# Altium footprint library MountingHole.PcbLib: 167 footprints (part 4 of 11)
Each footprint in its own frame and in the unit in brackets; x right, y up, seen from the top. Pads: shape width x height; smd on the part's side, far side on the other; paste and mask are expansions set on the pad; w line width, h text height; cw(c..) or ccw(c..) is an arc to the next point about the centre after c.
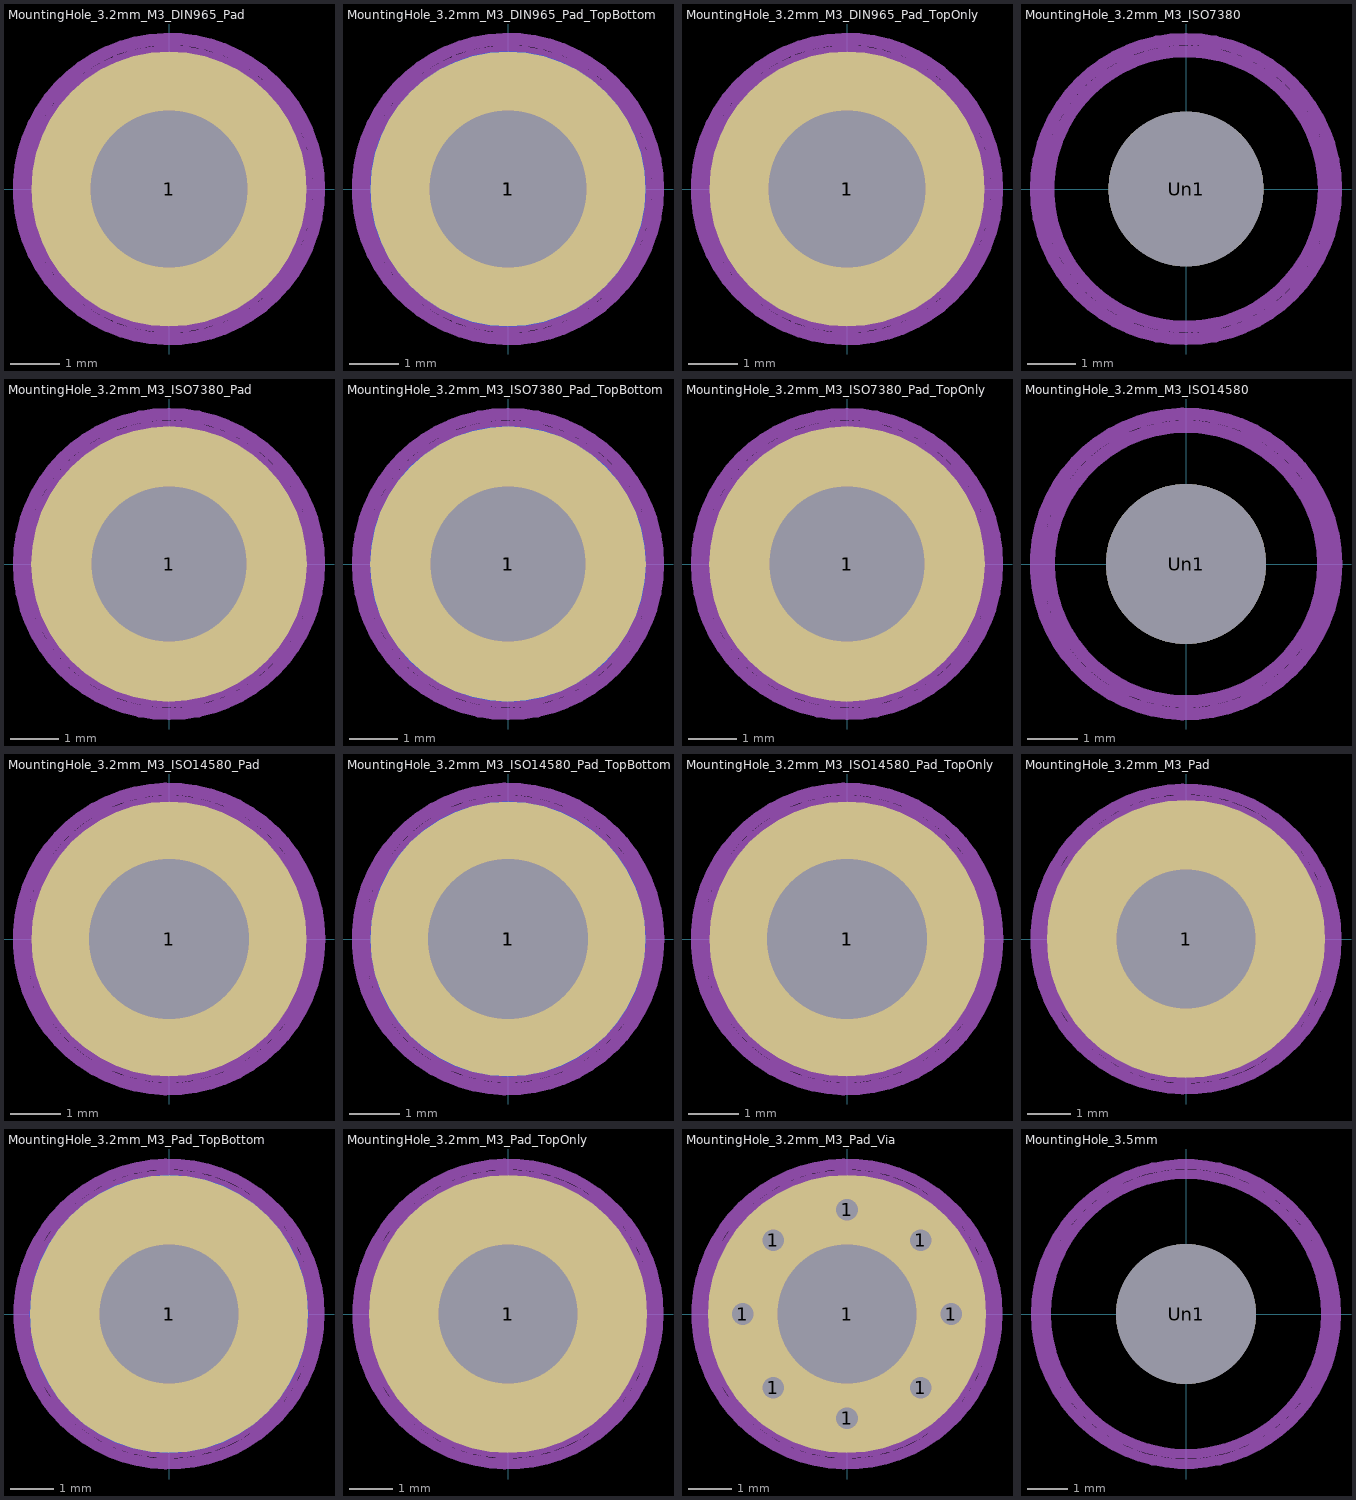
[diagram p3: the footprints below, top view; thin cyan lines are the x and y axes]

## MountingHole_3.2mm_M3_DIN965_Pad [mm]
pads (1):
  round 5.6 hole 3.2: 1(0,0)
Top Assembly:
  text "'.Designator'" at -4.047,-0.84 h1
Top Courtyard:
  circle w0.254: c0,0 r3.05
Top Designator:
  text ".Designator" at -7.768,-0.508 h1.52
Cmts.User:
  circle w0.254: c0,0 r2.8

## MountingHole_3.2mm_M3_DIN965_Pad_TopBottom [mm]
pads (3):
  round 3.6 hole 3.2: 1(0,0)
  round 5.6 smd: 1(0,0)
  round 5.6 smd far side: 1(0,0)
Top Assembly:
  text "'.Designator'" at -4.047,-0.84 h1
Top Courtyard:
  circle w0.254: c0,0 r3.05
Top Designator:
  text ".Designator" at -7.768,-0.508 h1.52
Cmts.User:
  circle w0.254: c0,0 r2.8

## MountingHole_3.2mm_M3_DIN965_Pad_TopOnly [mm]
pads (2):
  round 3.6 hole 3.2: 1(0,0)
  round 5.6 smd: 1(0,0)
Top Assembly:
  text "'.Designator'" at -4.047,-0.84 h1
Top Courtyard:
  circle w0.254: c0,0 r3.05
Top Designator:
  text ".Designator" at -7.768,-0.508 h1.52
Cmts.User:
  circle w0.254: c0,0 r2.8

## MountingHole_3.2mm_M3_ISO7380 [mm]
pads (1):
  round 3.2 hole 3.2: Un1(0,0)
Top Assembly:
  text "'.Designator'" at -4.047,-0.84 h1
Top Courtyard:
  circle w0.254: c0,0 r3.1
Top Designator:
  text ".Designator" at -7.768,-0.508 h1.52
Cmts.User:
  circle w0.254: c0,0 r2.85

## MountingHole_3.2mm_M3_ISO7380_Pad [mm]
pads (1):
  round 5.7 hole 3.2: 1(0,0)
Top Assembly:
  text "'.Designator'" at -4.047,-0.84 h1
Top Courtyard:
  circle w0.254: c0,0 r3.1
Top Designator:
  text ".Designator" at -7.768,-0.508 h1.52
Cmts.User:
  circle w0.254: c0,0 r2.85

## MountingHole_3.2mm_M3_ISO7380_Pad_TopBottom [mm]
pads (3):
  round 3.6 hole 3.2: 1(0,0)
  round 5.7 smd: 1(0,0)
  round 5.7 smd far side: 1(0,0)
Top Assembly:
  text "'.Designator'" at -4.047,-0.84 h1
Top Courtyard:
  circle w0.254: c0,0 r3.1
Top Designator:
  text ".Designator" at -7.768,-0.508 h1.52
Cmts.User:
  circle w0.254: c0,0 r2.85

## MountingHole_3.2mm_M3_ISO7380_Pad_TopOnly [mm]
pads (2):
  round 3.6 hole 3.2: 1(0,0)
  round 5.7 smd: 1(0,0)
Top Assembly:
  text "'.Designator'" at -4.047,-0.84 h1
Top Courtyard:
  circle w0.254: c0,0 r3.1
Top Designator:
  text ".Designator" at -7.768,-0.508 h1.52
Cmts.User:
  circle w0.254: c0,0 r2.85

## MountingHole_3.2mm_M3_ISO14580 [mm]
pads (1):
  round 3.2 hole 3.2: Un1(0,0)
Top Assembly:
  text "'.Designator'" at -4.047,-0.84 h1
Top Courtyard:
  circle w0.254: c0,0 r3
Top Designator:
  text ".Designator" at -7.768,-0.508 h1.52
Cmts.User:
  circle w0.254: c0,0 r2.75

## MountingHole_3.2mm_M3_ISO14580_Pad [mm]
pads (1):
  round 5.5 hole 3.2: 1(0,0)
Top Assembly:
  text "'.Designator'" at -4.047,-0.84 h1
Top Courtyard:
  circle w0.254: c0,0 r3
Top Designator:
  text ".Designator" at -7.768,-0.508 h1.52
Cmts.User:
  circle w0.254: c0,0 r2.75

## MountingHole_3.2mm_M3_ISO14580_Pad_TopBottom [mm]
pads (3):
  round 3.6 hole 3.2: 1(0,0)
  round 5.5 smd: 1(0,0)
  round 5.5 smd far side: 1(0,0)
Top Assembly:
  text "'.Designator'" at -4.047,-0.84 h1
Top Courtyard:
  circle w0.254: c0,0 r3
Top Designator:
  text ".Designator" at -7.768,-0.508 h1.52
Cmts.User:
  circle w0.254: c0,0 r2.75

## MountingHole_3.2mm_M3_ISO14580_Pad_TopOnly [mm]
pads (2):
  round 3.6 hole 3.2: 1(0,0)
  round 5.5 smd: 1(0,0)
Top Assembly:
  text "'.Designator'" at -4.047,-0.84 h1
Top Courtyard:
  circle w0.254: c0,0 r3
Top Designator:
  text ".Designator" at -7.768,-0.508 h1.52
Cmts.User:
  circle w0.254: c0,0 r2.75

## MountingHole_3.2mm_M3_Pad [mm]
pads (1):
  round 6.4 hole 3.2: 1(0,0)
Top Assembly:
  text "'.Designator'" at -4.047,-0.84 h1
Top Courtyard:
  circle w0.254: c0,0 r3.45
Top Designator:
  text ".Designator" at -7.768,-0.508 h1.52
Cmts.User:
  circle w0.254: c0,0 r3.2

## MountingHole_3.2mm_M3_Pad_TopBottom [mm]
pads (3):
  round 3.6 hole 3.2: 1(0,0)
  round 6.4 smd: 1(0,0)
  round 6.4 smd far side: 1(0,0)
Top Assembly:
  text "'.Designator'" at -4.047,-0.84 h1
Top Courtyard:
  circle w0.254: c0,0 r3.45
Top Designator:
  text ".Designator" at -7.768,-0.508 h1.52
Cmts.User:
  circle w0.254: c0,0 r3.2

## MountingHole_3.2mm_M3_Pad_TopOnly [mm]
pads (2):
  round 3.6 hole 3.2: 1(0,0)
  round 6.4 smd: 1(0,0)
Top Assembly:
  text "'.Designator'" at -4.047,-0.84 h1
Top Courtyard:
  circle w0.254: c0,0 r3.45
Top Designator:
  text ".Designator" at -7.768,-0.508 h1.52
Cmts.User:
  circle w0.254: c0,0 r3.2

## MountingHole_3.2mm_M3_Pad_Via [mm]
pads (9):
  round 0.8 hole 0.5: 1(-2.4,0) 1(-1.697,-1.697) 1(-1.697,1.697) 1(0,-2.4) 1(0,2.4) 1(1.697,-1.697) 1(1.697,1.697) 1(2.4,0)
  round 6.4 hole 3.2: 1(0,0)
Top Assembly:
  text "'.Designator'" at -4.047,-0.84 h1
Top Courtyard:
  circle w0.254: c0,0 r3.45
Top Designator:
  text ".Designator" at -7.768,-0.508 h1.52
Cmts.User:
  circle w0.254: c0,0 r3.2

## MountingHole_3.5mm [mm]
pads (1):
  round 3.5 hole 3.5: Un1(0,0)
Top Assembly:
  text "'.Designator'" at -4.047,-0.84 h1
Top Courtyard:
  circle w0.254: c0,0 r3.75
Top Designator:
  text ".Designator" at -7.768,-0.508 h1.52
Cmts.User:
  circle w0.254: c0,0 r3.5